# Altium footprint library passive.PcbLib: 22 footprints (part 1 of 2)
Each footprint in its own frame and in the unit in brackets; x right, y up, seen from the top. Pads: shape width x height; smd on the part's side, far side on the other; paste and mask are expansions set on the pad; w line width, h text height; cw(c..) or ccw(c..) is an arc to the next point about the centre after c.
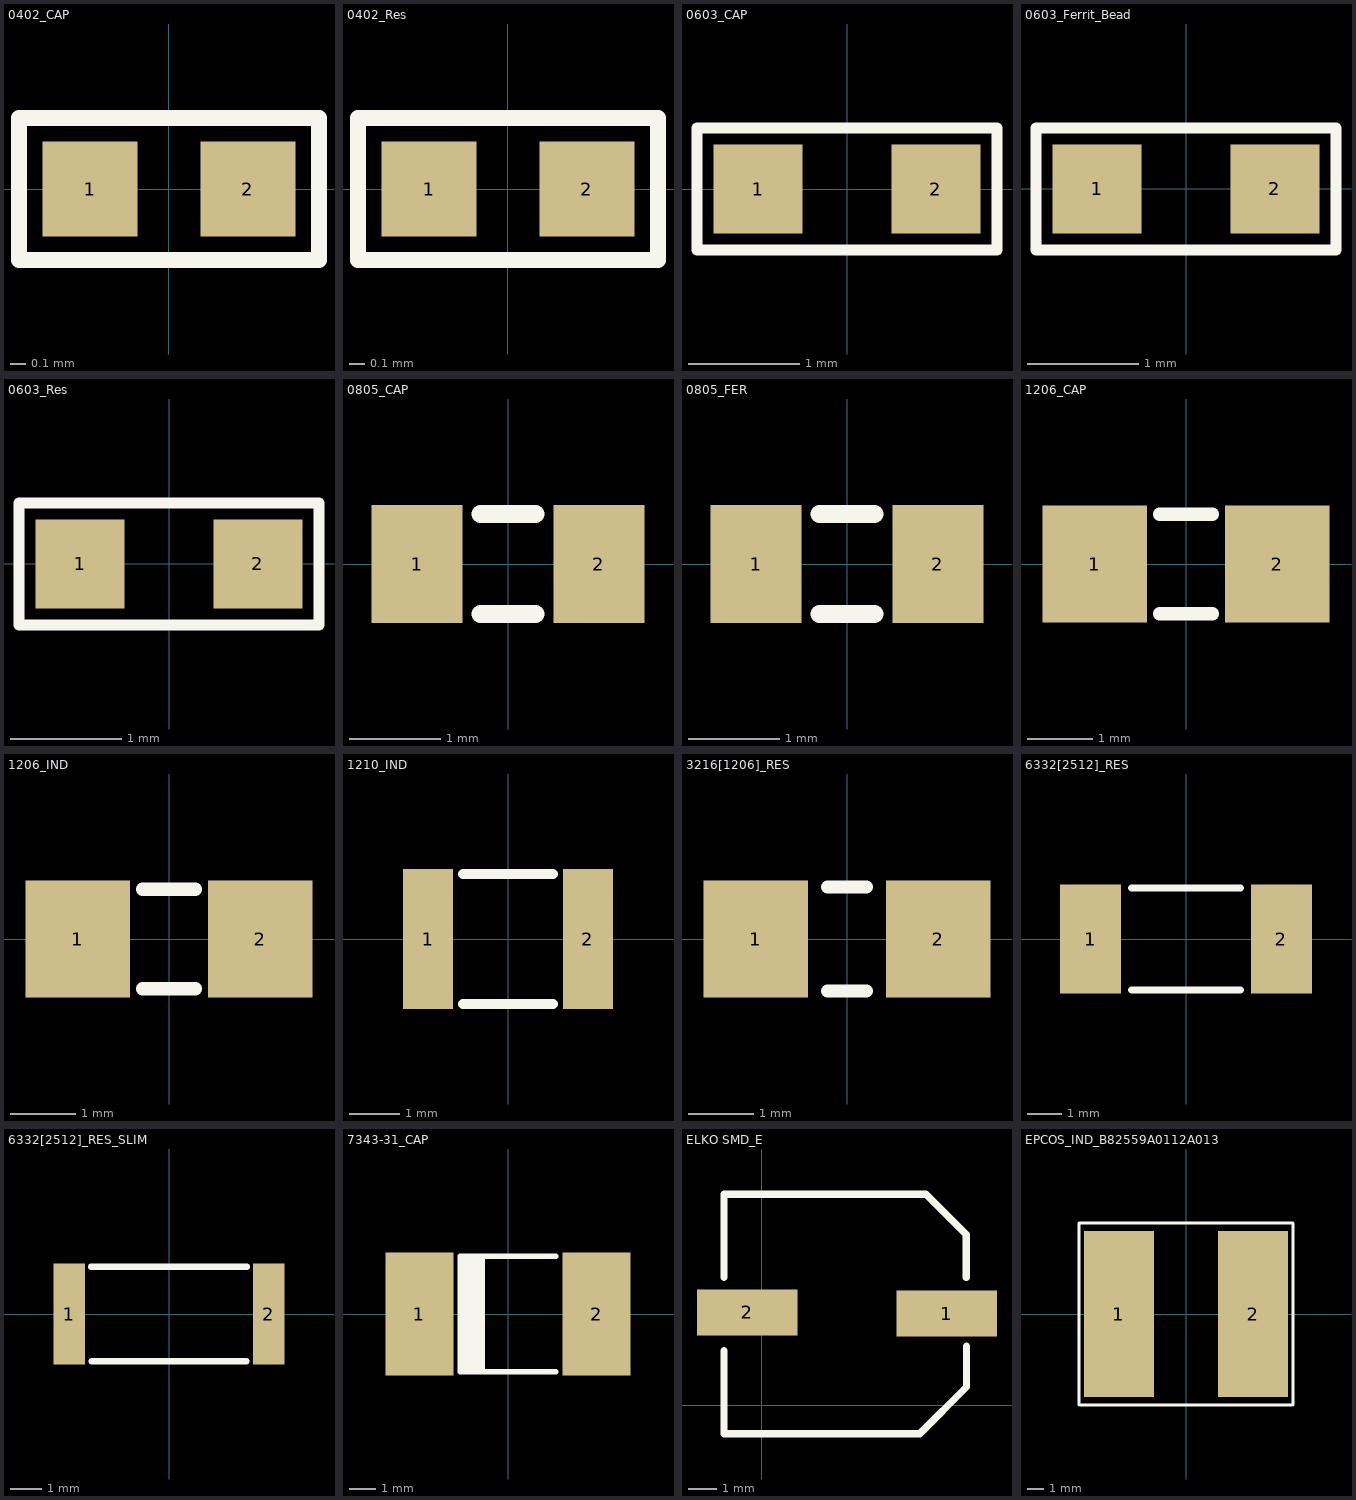
[diagram p0: the footprints below, top view; thin cyan lines are the x and y axes]

## 0402_CAP [mm] "Capacitor"
height 0.55
pads (2):
  rect 0.6x0.6 smd: 1(-0.5,0) 2(0.5,0)
Top Overlay:
  lines w0.1: -0.95,-0.45 0.95,-0.45 0.95,0.45 -0.95,0.45 -0.95,-0.45
3D body: height 0.2, standoff 0, extent -0.5,-0.3 0.5,0.3

## 0402_Res [mm] "Resistor"
height 0.55
pads (2):
  rect 0.6x0.6 smd: 1(-0.5,0) 2(0.5,0)
Top Overlay:
  lines w0.1: -0.95,-0.45 -0.95,0.45 0.95,0.45 0.95,-0.45 -0.95,-0.45
3D body: height 0.41, standoff 0, extent -0.575,-0.275 0.575,0.275

## 0603_CAP [mm]
pads (2):
  rect 0.8x0.8 smd: 1(-0.8,0) 2(0.8,0)
Top Overlay:
  lines w0.1: -1.35,-0.55 -1.35,0.55 1.35,0.55 1.35,-0.55 -1.35,-0.55
3D body: height 0.8, standoff 0, extent -0.8,-0.4 0.8,0.4

## 0603_Ferrit_Bead [mm] "Ferrit Bead"
height 0.8
pads (2):
  rect 0.8x0.8 smd: 1(-0.8,0) 2(0.8,0)
Top Overlay:
  lines w0.1: -1.35,-0.55 -1.35,0.55 1.35,0.55 1.35,-0.55 -1.35,-0.55
3D body: height 0.9, standoff 0, extent -0.8,-0.4 0.8,0.4

## 0603_Res [mm] "Resistor"
pads (2):
  rect 0.8x0.8 smd: 1(-0.8,0) 2(0.8,0)
Top Overlay:
  lines w0.1: -1.35,-0.55 1.35,-0.55 1.35,0.55 -1.35,0.55 -1.35,-0.55
3D body: height 0.45, standoff 0, extent -0.775,-0.425 0.775,0.425

## 0805_CAP [mm]
height 0.6
pads (2):
  rect 1x1.3 smd: 1(-1,0) 2(1,0)
Top Overlay:
  lines w0.203: -0.3,-0.55 0.3,-0.55 ; -0.3,0.55 0.3,0.55
3D body: height 0.78, standoff 0, extent -1,-0.625 1,0.625

## 0805_FER [mm] "Ferrit 0805 case."
height 0.6
pads (2):
  rect 1x1.3 smd: 1(-1,0) 2(1,0)
Top Overlay:
  lines w0.203: -0.3,-0.55 0.3,-0.55 ; -0.3,0.55 0.3,0.55
3D body: height 0.95, standoff 0, extent -1,-0.6 1,0.6

## 1206_CAP [mm]
pads (2):
  rect 1.6x1.8 smd: 1(-1.4,0) 2(1.4,0)
Top Overlay:
  lines w0.203: -0.406,-0.762 0.406,-0.762 ; -0.406,0.762 0.406,0.762
3D body: height 0.79, standoff 0.01, extent -1.6,-0.8 1.6,0.8

## 1206_IND [mm]
pads (2):
  rect 1.6x1.8 smd: 1(-1.4,0) 2(1.4,0)
Top Overlay:
  lines w0.203: -0.406,-0.762 0.406,-0.762 ; -0.406,0.762 0.406,0.762
3D body: height 1.5, standoff 0.4, extent -1.61,-0.79 1.59,0.81

## 1210_IND [mm] "1210 inductor case."
height 2.6
pads (2):
  rect 1x2.8 smd: 1(-1.6,0) 2(1.6,0)
Top Overlay:
  lines w0.2: -0.9,-1.3 0.9,-1.3 ; -0.9,1.3 0.9,1.3
3D body: height 2.55, standoff 0.05, extent -1.6,-1.24 1.6,1.26

## 3216[1206]_RES [mm] "Chip Resistor; Body 3.2 x 1.6 mm (LxW typ)"
height 0.71
pads (2):
  rect 1.6x1.8 smd: 1(-1.4,0) 2(1.4,0)
Top Overlay:
  lines w0.2: -0.3,-0.8 0.3,-0.8 ; -0.3,0.8 0.3,0.8
3D body: height 0.55, standoff 0, extent -1.6,-0.8 1.6,0.8

## 6332[2512]_RES [mm] "Chip Resistor; Body 6.3 x 3.2 mm (LxW typ)"
height 0.71
pads (2):
  rect 1.8x3.2 smd: 1(-2.8,0) 2(2.8,0)
Top Overlay:
  lines w0.2: -1.6,-1.5 1.6,-1.5 ; -1.6,1.5 1.6,1.5
3D body: height 0.62, standoff 0, extent -3.059,-1.6 3.26,1.6

## 6332[2512]_RES_SLIM [mm] "Chip Resistor; Body 6.3 x 3.2 mm (LxW typ)"
height 0.71
pads (2):
  rect 1x3.2 smd: 1(-3.175,0) 2(3.175,0)
Top Overlay:
  lines w0.2: -2.48,1.5 2.48,1.5 ; -2.47,-1.5 2.47,-1.5
3D body: height 0.62, standoff 0, extent -3.059,-1.6 3.26,1.6

## 7343-31_CAP [mil]
pads (2):
  rect 100x180 smd: 1(-130,0) 2(130,0)
Top Overlay:
  lines w8: -62,-85 -62,85 ; -54,-85 -54,85 ; -46,-85 -46,85 ; -38,-85 -38,85 ; 70,-85 -70,-85 -70,85 70,85
3D body: height 122.05, standoff 0, extent -144.6,-90.55 154.61,90.56

## ELKO SMD_E [mm] "8x6.3"
height 8.3
pads (2):
  rect 3.5x1.6 smd: 1(6.44,3.18) 2(-0.5,3.23)
Top Overlay:
  lines w0.25: -1.31,1.905 -1.31,-1 5.5,-1 7.13,0.63 7.13,2.05 ; -1.31,7.34 5.72,7.34 7.12,5.94 7.12,4.445
  lines w0.254: -1.31,4.445 -1.31,7.34
3D body: height 6.2, standoff 0, extent -1.55,-0.96 7.45,7.34

## EPCOS_IND_B82559A0112A013 [mm]
height 4.2
pads (2):
  rect 4.4x10.4 smd: 1(-4.2,0) 2(4.2,0)
Top Overlay:
  lines w0.2: -6.7,-5.7 -6.7,5.7 6.7,5.7 6.7,-5.7 ; -6.6,-5.7 6.6,-5.7
3D body: height 4.95, standoff 0, extent -6.53,-5.5 6.47,5.5